# EAGLE library part IC_TMP006 (library dp_devices)
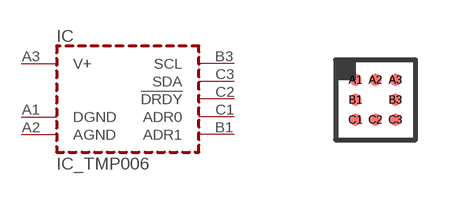
[diagram p60: symbol with the pads of DSBGA-8; footprint DSBGA-8]

Designator prefix IC

## IC_TMP006  [DSBGA-8]
A1  DGND  pwr
A2  AGND  pwr
A3  V+  pwr
B1  ADR1  in
B3  SCL  in
C1  ADR0  in
C2  !DRDY  out
C3  SDA

## Footprint DSBGA-8 (pad centres in mm)
smd 0.3 x 0.3: A1 -0.5,0.5; A2 0,0.5; A3 0.5,0.5; B1 -0.5,0; B3 0.5,0; C1 -0.5,-0.5; C2 0,-0.5; C3 0.5,-0.5